# Altium schematic symbol library Diode.SchLib: 27 symbols
Pins are listed as number, name and electrical type; pins without a type are passive.

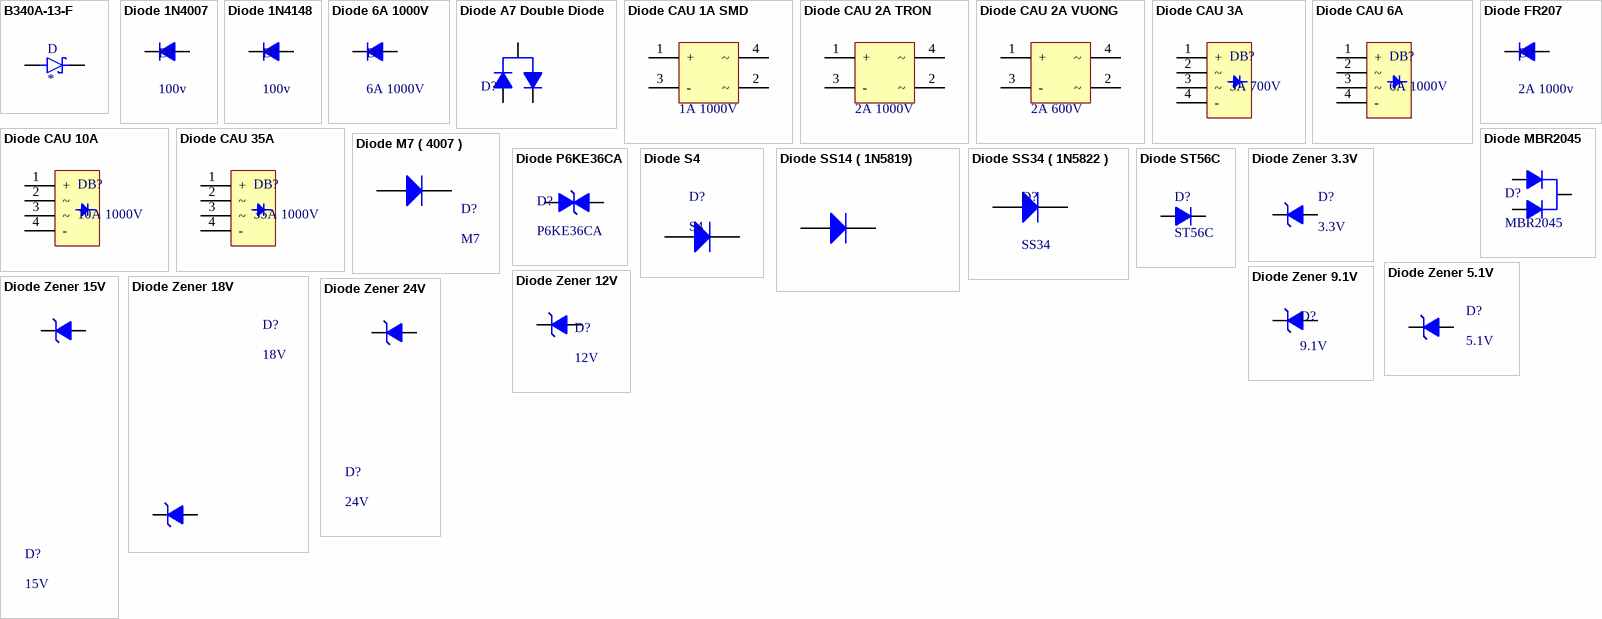
[diagram p0: symbols B340A-13-F to Diode Zener 24V]

## B340A-13-F
designator D
Diode Schottky 40V 3A Surface Mount SMA; MP: B340A-13-F; MF: Diodes Inc.; Availability: Unavailable; Price: None; Value: *; SnapEDA_Link: https://www.snapeda.com/parts/B340A-13-F/Diodes%20Inc./view-part/78704/?ref=snap; Package: DO-214 Diodes Inc.
footprint DIOM5226X240N
pins: A, C

## Diode 1N4007
designator D?, comment 100v
Cắm; Ten_Linh_Kien: Diode 1N4007 1A (DIP); Don_Vi: Con; Ma_Hang: MH001063; Ghi Chu: *; Kieu_Chan: *; Chung_Loai: Cắm
footprint DIODE 1A (Diode 1A)
footprint DIODE 1A DUNG (Diode 1A DUNG)
pins: 1 A, 2 K

## Diode 1N4148
designator D?, comment 100v
Cắm; Ten_Linh_Kien: Diode 1N4148 DO35 450mA 100V ( 1N4148 DIP); Don_Vi: Con; Ma_Hang: MH001065; Ghi Chu: *; Kieu_Chan: *; Chung_Loai: Cắm
footprint DIODE 0.5A (Diode muoi, xung)
pins: 1 A, 2 K

## Diode 6A 1000V
designator D?, comment 6A 1000V
Cắm; Ten_Linh_Kien: Diode 6A10 6A 1000V (DIP); Don_Vi: Con; Ma_Hang: MH006103; Ghi Chu: *; Kieu_Chan: *; Chung_Loai: Cắm
footprint DIODE 7A (Diode 7A)
pins: 1 A, 2 K

## Diode A7 Double Diode
designator D?, comment High Speed Double Diode  (value not drawn)
High Speed Double Diode SOT23
footprint DIODE SOT23 (SOT 23 _ 1-3-2)
pins: 1 A, 2 K, 3 CC

## Diode CAU 1A SMD
designator D?, comment 1A 1000V
Dán; Ten_Linh_Kien: DBS10 SOP4 Diode Cầu 1A 1000V; Don_Vi: Con; Ma_Hang: MH009806; Ghi_Chu: *; Kieu_Chan: *; Chung_Loai: Dán
footprint DIODE CAU 1A SMD SOP4 (SOP4)
pins: 1 +, 2 ~, 3 -, 4 ~

## Diode CAU 2A TRON
designator D?, comment 2A 1000V
Cắm; Ten_Linh_Kien: Diode Cầu 2A 1000V 2W10 ( Tròn ); Don_Vi: Con; Ma_Hang: MH001205; Ghi_Chu: *; Kieu_Chan: *; Chung_Loai: Cắm
footprint DIODE CAU 1A CAM TRON
pins: 1 +, 2 ~, 3 -, 4 ~

## Diode CAU 2A VUONG
designator D?, comment 2A 600V
Cắm; Ten_Linh_Kien: Diode Cầu 2A 600V KBP206 Vuông; Don_Vi: Con; Ma_Hang: MH001206; Ghi_Chu: *; Kieu_Chan: *; Chung_Loai: Cắm
footprint DIODE CAU 2A 3A CAM
pins: 1 +, 2 ~, 3 -, 4 ~

## Diode CAU 3A
designator DB?, comment 3A 700V
Cắm; Ten_Linh_Kien: Diode Cầu 3A 700V KBP307 ( Vuông); Don_Vi: Con; Ma_Hang: MH001207; Ghi_Chu: *; Kieu_Chan: *; Chung_Loai: cắm
footprint DIODE CAU 2A 3A CAM
pins: 1 +, 2 ~, 3 ~, 4 -

## Diode CAU 6A
designator DB?, comment 6A 1000V
Cắm; Ten_Linh_Kien: Diode Cầu 6A 1000V KBL610; Don_Vi: Con; Ma_Hang: MH004297; Ghi_Chu: *; Kieu_Chan: *; Chung_Loai: cắm
footprint DIODE CAU 6A CAM
pins: 1 +, 2 ~, 3 ~, 4 -

## Diode CAU 10A
designator DB?, comment 10A 1000V
Cắm; Ten_Linh_Kien: Diode Cầu 10A 1000V KBU1010; Don_Vi: Con; Ma_Hang: MH004295; Ghi_Chu: *; Kieu_Chan: *; Chung_Loai: cắm
footprint DIODE CAU 10A CAM
pins: 1 +, 2 ~, 3 ~, 4 -

## Diode CAU 35A
designator DB?, comment 35A 1000V
Cắm; Ten_Linh_Kien: Diode Cầu 35A 1000V KBPC3510 (Loại Sắt); Don_Vi: Con; Ma_Hang: MH005029; Ghi_Chu: *; Kieu_Chan: *; Chung_Loai: cắm
footprint DIODE CAU 35A CAM (DIODE CAU 35A/1000V)
pins: 1 +, 2 ~, 3 ~, 4 -

## Diode FR207
designator D?, comment 2A 1000v
Cắm; Ten_Linh_Kien: Diode FR207 2A 1000V ( DIP); Don_Vi: Con; Ma_Hang: MH005704; Ghi Chu: *; Kieu_Chan: *; Chung_Loai: Cắm
footprint DIODE 2A (Diode 2A)
footprint DIODE 2A DUNG (Diode 2A DUNG)
pins: 1 A, 2 K

## Diode M7 ( 4007 )
designator D?, comment M7
Dán; Don_Vi: Con; Ten_Linh_Kien: Diode M7 1N4007 SMD 1A 1000V; Ma_Hang: MH000944; Chung_Loai: Dán; Ghi_Chu: *
footprint DIODE SMA (SMA)
pins: 1 A, 2 K

## Diode MBR2045
designator D?, comment MBR2045
MBR2045 20A 45V TO-220 - SHOTTKY BARRIER RECTIFIER
footprint TO220 (TO-220)
pins: 1 A1, 2 K, 3 A2

## Diode P6KE36CA
designator D?, comment P6KE36CA
TVS Diodes P6KE36CA 600W 36V DO-15 (DO-204AC)
footprint DIODE 1A (Diode 1A)
pins: 1 A, 2 K

## Diode S4
designator D?, comment S4
Dán; Ten_Linh_Kien: Diode S4 SOD123 ( 1N5819 SOD123); Ma_Hang: MH005519; Don_Vi: Con; Ghi_Chu: *; Chung_Loai: Dán; Kieu_Chan: *
footprint DIODE SOD-123 (SOD-123)
pins: 1 A, 2 K

## Diode SS14 ( 1N5819)
designator D?, comment SS14
Dán; Ma_Hang: MH002211; Don_Vi: Con; Ten_Linh_Kien: Diode SS14 DO214 Schottky 1A 40V ( 1N5819 DO214); Chung_Loai: Dán; Ghi_Chu: *; Kieu_Chan: *
footprint DIODE SMA (SMA)
pins: 1 A, 2 K

## Diode SS34 ( 1N5822 )
designator D?, comment SS34
Dán; Don_Vi: Con; Ma_Hang: MH002104; Ten_Linh_Kien: Diode SS34 3A 40V SMA ( 1N5822 SS34A); Kieu_Chan: *; Chung_Loai: Dán
footprint DIODE SMA (SMA)
pins: 1 A, 2 K

## Diode ST56C
designator D?, comment ST56C
C414012 - DO-214AB; Ten_Linh_Kien: Diode 1N4148 DO35 450mA 100V ( 1N4148 DIP); Don_Vi: Con; Chung_Loai: Cắm; Ma_Hang: MH001065; Ghi Chu: *; Kieu_Chan: *
footprint DO-214AB
pins: 1 A, 2 K

## Diode Zener 3.3V
designator D?, comment 3.3V
Dán; Don_Vi: Con; Ma_Hang: MH002880; Ten_Linh_Kien: Diode Zener 1/2W 3.3V SMD1206 ZMM3.3; Kieu_Chan: *; Ghi_Chu: *; Chung_Loai: Dán
footprint DIODE ZENNER SMD SOD80 (SOD80)
pins: 1 A, 2 K

## Diode Zener 5.1V
designator D?, comment 5.1V
Dán; Ma_Hang: MH002881; Ten_Linh_Kien: Diode Zener 1/2W 5.1V SMD1206 ZMM5.1; Don_Vi: Con; Kieu_Chan: *; Ghi_Chu: *; Chung_Loai: Dán
footprint DIODE ZENNER SMD SOD80 (SOD80)
pins: 1 A, 2 K

## Diode Zener 9.1V
designator D?, comment 9.1V
Dán; Don_Vi: Con; Ma_Hang: MH002882; Ten_Linh_Kien: Diode Zener 1/2W 9.1V SMD1206 ZMM9.1; Ghi_Chu: *; Chung_Loai: Dán; Kieu_Chan: *
footprint DIODE ZENNER SMD SOD80 (SOD80)
pins: 1 A, 2 K

## Diode Zener 12V
designator D?, comment 12V
Dán; Ma_Hang: MH000945; Don_Vi: Con; Ten_Linh_Kien: Diode Zener 1/2W 12V SMD1206 ZMM12; Kieu_Chan: *; Ghi_Chu: *; Chung_Loai: Dán
footprint DIODE ZENNER SMD SOD80 (SOD80)
pins: 1 A, 2 K

## Diode Zener 15V
designator D?, comment 15V
Dán; Don_Vi: Con; Ma_Hang: MH002883; Ten_Linh_Kien: Diode Zener 1/2W 15V SMD1206 ZMM15; Ghi_Chu: *; Chung_Loai: Dán; Kieu_Chan: *
footprint DIODE ZENNER SMD SOD80 (SOD80)
pins: 1 A, 2 K

## Diode Zener 18V
designator D?, comment 18V
Dán; Don_Vi: Con; Ma_Hang: MH002884; Ten_Linh_Kien: Diode Zener 1/2W 18V SMD1206 ZMM18; Chung_Loai: Dán; Ghi_Chu: *; Kieu_Chan: *
footprint DIODE ZENNER SMD SOD80 (SOD80)
pins: 1 A, 2 K

## Diode Zener 24V
designator D?, comment 24V
Cắm; Don_Vi: Con; Ten_Linh_Kien: Diode Zener 1/2W 24V DIP 1N5252B; Ma_Hang: MH002878; Ghi_Chu: *; Kieu_Chan: *; Chung_Loai: Cắm
footprint DIODE ZENNER SMD SOD80 (SOD80)
pins: 1 A, 2 K